# EAGLE library part XC2SE-FT256 (library Xilinx)
Spartan 2E FPGA in FT256 Package
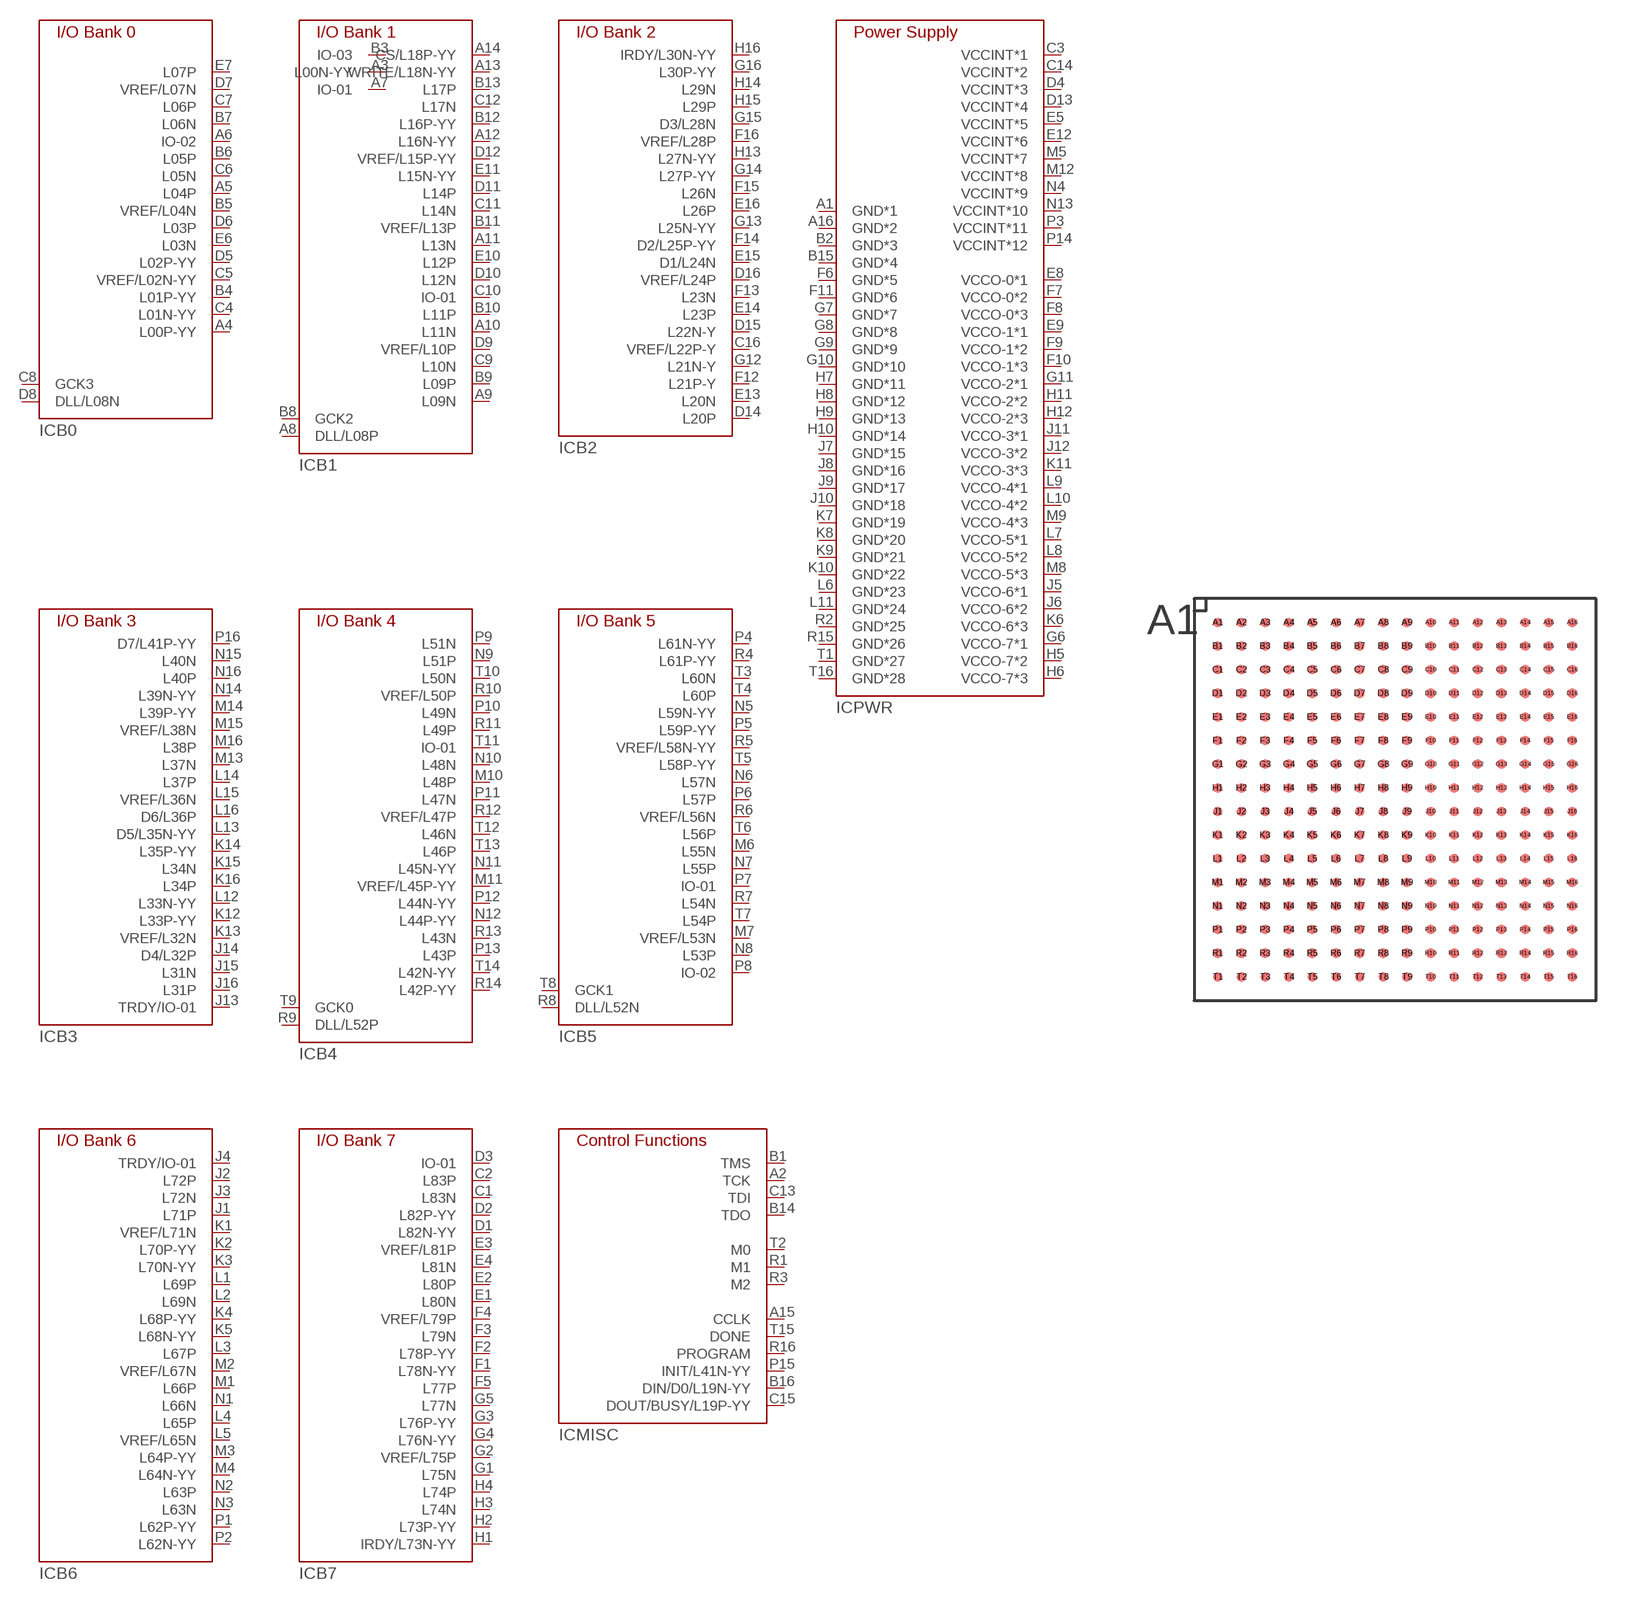
[diagram p18: symbol with the pads of FG256; footprint FG256]

Designator prefix IC; gates B0=XC2SE/FT256-B0 B1=XC2SE/FT256-B1 B2=XC2SE/FT256-B2 B3=XC2SE/FT256-B3 B4=XC2SE/FT256-B4 B5=XC2SE/FT256-B5 B6=XC2SE/FT256-B6 B7=XC2SE/FT256-B7 MISC=XC2SE/FT256-MISC PWR=XC2SE/FT256-PWR

## XC2SE-FT256  [FG256]
A1  PWR:GND*1  pwr
A2  MISC:TCK
A3  B0:L00N-YY
A4  B0:L00P-YY
A5  B0:L04P
A6  B0:IO-02
A7  B0:IO-01
A8  B1:DLL/L08P
A9  B1:L09N
A10  B1:L11N
A11  B1:L13N
A12  B1:L16N-YY
A13  B1:WRITE/L18N-YY
A14  B1:CS/L18P-YY
A15  MISC:CCLK
A16  PWR:GND*2  pwr
B1  MISC:TMS
B2  PWR:GND*3  pwr
B3  B0:IO-03
B4  B0:L01P-YY
B5  B0:VREF/L04N
B6  B0:L05P
B7  B0:L06N
B8  B1:GCK2
B9  B1:L09P
B10  B1:L11P
B11  B1:VREF/L13P
B12  B1:L16P-YY
B13  B1:L17P
B14  MISC:TDO
B15  PWR:GND*4  pwr
B16  MISC:DIN/D0/L19N-YY
C1  B7:L83N
C2  B7:L83P
C3  PWR:VCCINT*1  pwr
C4  B0:L01N-YY
C5  B0:VREF/L02N-YY
C6  B0:L05N
C7  B0:L06P
C8  B0:GCK3
C9  B1:L10N
C10  B1:IO-01
C11  B1:L14N
C12  B1:L17N
C13  MISC:TDI
C14  PWR:VCCINT*2  pwr
C15  MISC:DOUT/BUSY/L19P-YY
C16  B2:VREF/L22P-Y
D1  B7:L82N-YY
D2  B7:L82P-YY
D3  B7:IO-01
D4  PWR:VCCINT*3  pwr
D5  B0:L02P-YY
D6  B0:L03P
D7  B0:VREF/L07N
D8  B0:DLL/L08N
D9  B1:VREF/L10P
D10  B1:L12N
D11  B1:L14P
D12  B1:VREF/L15P-YY
D13  PWR:VCCINT*4  pwr
D14  B2:L20P
D15  B2:L22N-Y
D16  B2:VREF/L24P
E1  B7:L80N
E2  B7:L80P
E3  B7:VREF/L81P
E4  B7:L81N
E5  PWR:VCCINT*5  pwr
E6  B0:L03N
E7  B0:L07P
E8  PWR:VCCO-0*1  pwr
E9  PWR:VCCO-1*1  pwr
E10  B1:L12P
E11  B1:L15N-YY
E12  PWR:VCCINT*6  pwr
E13  B2:L20N
E14  B2:L23P
E15  B2:D1/L24N
E16  B2:L26P
F1  B7:L78N-YY
F2  B7:L78P-YY
F3  B7:L79N
F4  B7:VREF/L79P
F5  B7:L77P
F6  PWR:GND*5  pwr
F7  PWR:VCCO-0*2  pwr
F8  PWR:VCCO-0*3  pwr
F9  PWR:VCCO-1*2  pwr
F10  PWR:VCCO-1*3  pwr
F11  PWR:GND*6  pwr
F12  B2:L21P-Y
F13  B2:L23N
F14  B2:D2/L25P-YY
F15  B2:L26N
F16  B2:VREF/L28P
G1  B7:L75N
G2  B7:VREF/L75P
G3  B7:L76P-YY
G4  B7:L76N-YY
G5  B7:L77N
G6  PWR:VCCO-7*1  pwr
G7  PWR:GND*7  pwr
G8  PWR:GND*8  pwr
G9  PWR:GND*9  pwr
G10  PWR:GND*10  pwr
G11  PWR:VCCO-2*1  pwr
G12  B2:L21N-Y
G13  B2:L25N-YY
G14  B2:L27P-YY
G15  B2:D3/L28N
G16  B2:L30P-YY
H1  B7:IRDY/L73N-YY
H2  B7:L73P-YY
H3  B7:L74N
H4  B7:L74P
H5  PWR:VCCO-7*2  pwr
H6  PWR:VCCO-7*3  pwr
H7  PWR:GND*11  pwr
H8  PWR:GND*12  pwr
H9  PWR:GND*13  pwr
H10  PWR:GND*14  pwr
H11  PWR:VCCO-2*2  pwr
H12  PWR:VCCO-2*3  pwr
H13  B2:L27N-YY
H14  B2:L29N
H15  B2:L29P
H16  B2:IRDY/L30N-YY
J1  B6:L71P
J2  B6:L72P
J3  B6:L72N
J4  B6:TRDY/IO-01
J5  PWR:VCCO-6*1  pwr
J6  PWR:VCCO-6*2  pwr
J7  PWR:GND*15  pwr
J8  PWR:GND*16  pwr
J9  PWR:GND*17  pwr
J10  PWR:GND*18  pwr
J11  PWR:VCCO-3*1  pwr
J12  PWR:VCCO-3*2  pwr
J13  B3:TRDY/IO-01
J14  B3:D4/L32P
J15  B3:L31N
J16  B3:L31P
K1  B6:VREF/L71N
K2  B6:L70P-YY
K3  B6:L70N-YY
K4  B6:L68P-YY
K5  B6:L68N-YY
K6  PWR:VCCO-6*3  pwr
K7  PWR:GND*19  pwr
K8  PWR:GND*20  pwr
K9  PWR:GND*21  pwr
K10  PWR:GND*22  pwr
K11  PWR:VCCO-3*3  pwr
K12  B3:L33P-YY
K13  B3:VREF/L32N
K14  B3:L35P-YY
K15  B3:L34N
K16  B3:L34P
L1  B6:L69P
L2  B6:L69N
L3  B6:L67P
L4  B6:L65P
L5  B6:VREF/L65N
L6  PWR:GND*23  pwr
L7  PWR:VCCO-5*1  pwr
L8  PWR:VCCO-5*2  pwr
L9  PWR:VCCO-4*1  pwr
L10  PWR:VCCO-4*2  pwr
L11  PWR:GND*24  pwr
L12  B3:L33N-YY
L13  B3:D5/L35N-YY
L14  B3:L37P
L15  B3:VREF/L36N
L16  B3:D6/L36P
M1  B6:L66P
M2  B6:VREF/L67N
M3  B6:L64P-YY
M4  B6:L64N-YY
M5  PWR:VCCINT*7  pwr
M6  B5:L55N
M7  B5:VREF/L53N
M8  PWR:VCCO-5*3  pwr
M9  PWR:VCCO-4*3  pwr
M10  B4:L48P
M11  B4:VREF/L45P-YY
M12  PWR:VCCINT*8  pwr
M13  B3:L37N
M14  B3:L39P-YY
M15  B3:VREF/L38N
M16  B3:L38P
N1  B6:L66N
N2  B6:L63P
N3  B6:L63N
N4  PWR:VCCINT*9  pwr
N5  B5:L59N-YY
N6  B5:L57N
N7  B5:L55P
N8  B5:L53P
N9  B4:L51P
N10  B4:L48N
N11  B4:L45N-YY
N12  B4:L44P-YY
N13  PWR:VCCINT*10  pwr
N14  B3:L39N-YY
N15  B3:L40N
N16  B3:L40P
P1  B6:L62P-YY
P2  B6:L62N-YY
P3  PWR:VCCINT*11  pwr
P4  B5:L61N-YY
P5  B5:L59P-YY
P6  B5:L57P
P7  B5:IO-01
P8  B5:IO-02
P9  B4:L51N
P10  B4:L49N
P11  B4:L47N
P12  B4:L44N-YY
P13  B4:L43P
P14  PWR:VCCINT*12  pwr
P15  MISC:INIT/L41N-YY
P16  B3:D7/L41P-YY
R1  MISC:M1
R2  PWR:GND*25  pwr
R3  MISC:M2
R4  B5:L61P-YY
R5  B5:VREF/L58N-YY
R6  B5:VREF/L56N
R7  B5:L54N
R8  B5:DLL/L52N
R9  B4:DLL/L52P
R10  B4:VREF/L50P
R11  B4:L49P
R12  B4:VREF/L47P
R13  B4:L43N
R14  B4:L42P-YY
R15  PWR:GND*26  pwr
R16  MISC:PROGRAM
T1  PWR:GND*27  pwr
T2  MISC:M0
T3  B5:L60N
T4  B5:L60P
T5  B5:L58P-YY
T6  B5:L56P
T7  B5:L54P
T8  B5:GCK1
T9  B4:GCK0
T10  B4:L50N
T11  B4:IO-01
T12  B4:L46N
T13  B4:L46P
T14  B4:L42N-YY
T15  MISC:DONE
T16  PWR:GND*28  pwr

## Footprint FG256 (pad centres in mm)
Fine Pitch Ball Grid Array (FG256/FT256)
smd 0.4 x 0.4: A1 -7.5,7.5; A2 -6.5,7.5; A3 -5.5,7.5; A4 -4.5,7.5; A5 -3.5,7.5; A6 -2.5,7.5; A7 -1.5,7.5; A8 -0.5,7.5; A9 0.5,7.5; A10 1.5,7.5; A11 2.5,7.5; A12 3.5,7.5; A13 4.5,7.5; A14 5.5,7.5; A15 6.5,7.5; A16 7.5,7.5; B1 -7.5,6.5; B2 -6.5,6.5; B3 -5.5,6.5; B4 -4.5,6.5; B5 -3.5,6.5; B6 -2.5,6.5; B7 -1.5,6.5; B8 -0.5,6.5; B9 0.5,6.5; B10 1.5,6.5; B11 2.5,6.5; B12 3.5,6.5; B13 4.5,6.5; B14 5.5,6.5; B15 6.5,6.5; B16 7.5,6.5; C1 -7.5,5.5; C2 -6.5,5.5; C3 -5.5,5.5; C4 -4.5,5.5; C5 -3.5,5.5; C6 -2.5,5.5; C7 -1.5,5.5; C8 -0.5,5.5; C9 0.5,5.5; C10 1.5,5.5; C11 2.5,5.5; C12 3.5,5.5; C13 4.5,5.5; C14 5.5,5.5; C15 6.5,5.5; C16 7.5,5.5; D1 -7.5,4.5; D2 -6.5,4.5; D3 -5.5,4.5; D4 -4.5,4.5; D5 -3.5,4.5; D6 -2.5,4.5; D7 -1.5,4.5; D8 -0.5,4.5; D9 0.5,4.5; D10 1.5,4.5; D11 2.5,4.5; D12 3.5,4.5; D13 4.5,4.5; D14 5.5,4.5; D15 6.5,4.5; D16 7.5,4.5; E1 -7.5,3.5; E2 -6.5,3.5; E3 -5.5,3.5; E4 -4.5,3.5; E5 -3.5,3.5; E6 -2.5,3.5; E7 -1.5,3.5; E8 -0.5,3.5; E9 0.5,3.5; E10 1.5,3.5; E11 2.5,3.5; E12 3.5,3.5; E13 4.5,3.5; E14 5.5,3.5; E15 6.5,3.5; E16 7.5,3.5; F1 -7.5,2.5; F2 -6.5,2.5; F3 -5.5,2.5; F4 -4.5,2.5; F5 -3.5,2.5; F6 -2.5,2.5; F7 -1.5,2.5; F8 -0.5,2.5; F9 0.5,2.5; F10 1.5,2.5; F11 2.5,2.5; F12 3.5,2.5; F13 4.5,2.5; F14 5.5,2.5; F15 6.5,2.5; F16 7.5,2.5; G1 -7.5,1.5; G2 -6.5,1.5; G3 -5.5,1.5; G4 -4.5,1.5; G5 -3.5,1.5; G6 -2.5,1.5; G7 -1.5,1.5; G8 -0.5,1.5; G9 0.5,1.5; G10 1.5,1.5; G11 2.5,1.5; G12 3.5,1.5; G13 4.5,1.5; G14 5.5,1.5; G15 6.5,1.5; G16 7.5,1.5; H1 -7.5,0.5; H2 -6.5,0.5; H3 -5.5,0.5; H4 -4.5,0.5; H5 -3.5,0.5; H6 -2.5,0.5; H7 -1.5,0.5; H8 -0.5,0.5; H9 0.5,0.5; H10 1.5,0.5; H11 2.5,0.5; H12 3.5,0.5; H13 4.5,0.5; H14 5.5,0.5; H15 6.5,0.5; H16 7.5,0.5; J1 -7.5,-0.5; J2 -6.5,-0.5; J3 -5.5,-0.5; J4 -4.5,-0.5; J5 -3.5,-0.5; J6 -2.5,-0.5; J7 -1.5,-0.5; J8 -0.5,-0.5; J9 0.5,-0.5; J10 1.5,-0.5; J11 2.5,-0.5; J12 3.5,-0.5; J13 4.5,-0.5; J14 5.5,-0.5; J15 6.5,-0.5; J16 7.5,-0.5; K1 -7.5,-1.5; K2 -6.5,-1.5; K3 -5.5,-1.5; K4 -4.5,-1.5; K5 -3.5,-1.5; K6 -2.5,-1.5; K7 -1.5,-1.5; K8 -0.5,-1.5; K9 0.5,-1.5; K10 1.5,-1.5; K11 2.5,-1.5; K12 3.5,-1.5; K13 4.5,-1.5; K14 5.5,-1.5; K15 6.5,-1.5; K16 7.5,-1.5; L1 -7.5,-2.5; L2 -6.5,-2.5; L3 -5.5,-2.5; L4 -4.5,-2.5; L5 -3.5,-2.5; L6 -2.5,-2.5; L7 -1.5,-2.5; L8 -0.5,-2.5; L9 0.5,-2.5; L10 1.5,-2.5; L11 2.5,-2.5; L12 3.5,-2.5; L13 4.5,-2.5; L14 5.5,-2.5; L15 6.5,-2.5; L16 7.5,-2.5; M1 -7.5,-3.5; M2 -6.5,-3.5; M3 -5.5,-3.5; M4 -4.5,-3.5; M5 -3.5,-3.5; M6 -2.5,-3.5; M7 -1.5,-3.5; M8 -0.5,-3.5; M9 0.5,-3.5; M10 1.5,-3.5; M11 2.5,-3.5; M12 3.5,-3.5; M13 4.5,-3.5; M14 5.5,-3.5; M15 6.5,-3.5; M16 7.5,-3.5; N1 -7.5,-4.5; N2 -6.5,-4.5; N3 -5.5,-4.5; N4 -4.5,-4.5; N5 -3.5,-4.5; N6 -2.5,-4.5; N7 -1.5,-4.5; N8 -0.5,-4.5; N9 0.5,-4.5; N10 1.5,-4.5; N11 2.5,-4.5; N12 3.5,-4.5; N13 4.5,-4.5; N14 5.5,-4.5; N15 6.5,-4.5; N16 7.5,-4.5; P1 -7.5,-5.5; P2 -6.5,-5.5; P3 -5.5,-5.5; P4 -4.5,-5.5; P5 -3.5,-5.5; P6 -2.5,-5.5; P7 -1.5,-5.5; P8 -0.5,-5.5; P9 0.5,-5.5; P10 1.5,-5.5; P11 2.5,-5.5; P12 3.5,-5.5; P13 4.5,-5.5; P14 5.5,-5.5; P15 6.5,-5.5; P16 7.5,-5.5; R1 -7.5,-6.5; R2 -6.5,-6.5; R3 -5.5,-6.5; R4 -4.5,-6.5; R5 -3.5,-6.5; R6 -2.5,-6.5; R7 -1.5,-6.5; R8 -0.5,-6.5; R9 0.5,-6.5; R10 1.5,-6.5; R11 2.5,-6.5; R12 3.5,-6.5; R13 4.5,-6.5; R14 5.5,-6.5; R15 6.5,-6.5; R16 7.5,-6.5; T1 -7.5,-7.5; T2 -6.5,-7.5; T3 -5.5,-7.5; T4 -4.5,-7.5; T5 -3.5,-7.5; T6 -2.5,-7.5; T7 -1.5,-7.5; T8 -0.5,-7.5; T9 0.5,-7.5; T10 1.5,-7.5; T11 2.5,-7.5; T12 3.5,-7.5; T13 4.5,-7.5; T14 5.5,-7.5; T15 6.5,-7.5; T16 7.5,-7.5